# EAGLE library part ATSAMD21G* (library IC_Embedded)
32-bit ARM-Based Microcontrollers Datasheet <http://ww1.microchip.com/downloads/en/devicedoc/40001884a.pdf> Note:For this part User needs to add thermal via in thermal pad in QFN package while designing a board.
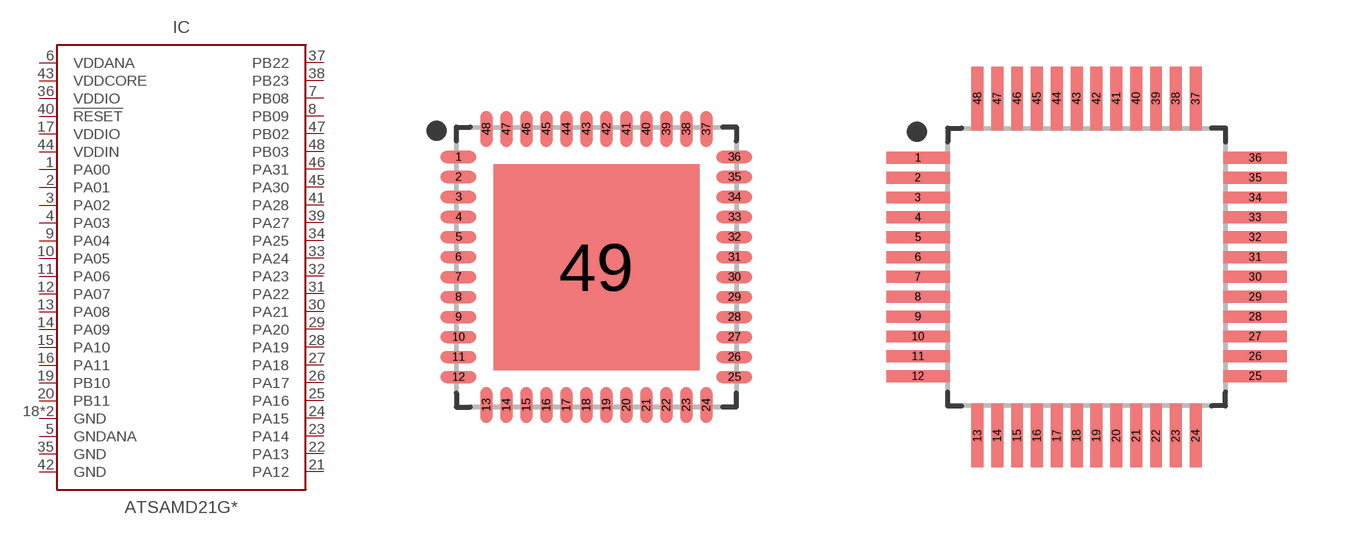
[diagram p5: symbol with the pads of QFN50P700X700X90-49T515; footprints QFN50P700X700X90-49T515, QFP50P900X900X120-48]

Designator prefix IC

## ATSAMD21G_QFN (CATEGORY: IC_Embedded; CORE: Cortex-M0+ CPU; DESCRIPTION: Low-power, high-performance Microchip's ARM® Cortex®-M0+ based flash microcontroller; MANUFACTURER: Microchip Technology; MPN: ATSAMD21G; OPERATING_TEMP: Variable; PACKAGE: QFN-48; PART_STATUS: Active; ROHS_COMPLIANT: COMPLIANT; SERIES: SAM D21G; SUB-CATEGORY: Microcontroller; TYPE: 32 bit Microcontroller; VALUE: ATSAMD21G)  [QFN50P700X700X90-49T515]
1  PA00  out
2  PA01  out
3  PA02
4  PA03
5  GNDANA  pwr
6  VDDANA  pwr
7  PB08
8  PB09
9  PA04
10  PA05
11  PA06
12  PA07
13  PA08
14  PA09
15  PA10
16  PA11
17  VDDIO  pwr
18  GND  pwr
19  PB10
20  PB11
21  PA12
22  PA13
23  PA14  out
24  PA15  out
25  PA16
26  PA17
27  PA18
28  PA19
29  PA20
30  PA21
31  PA22
32  PA23
33  PA24
34  PA25
35  GND  pwr
36  VDDIO  pwr
37  PB22
38  PB23
39  PA27
40  !RESET  in
41  PA28
42  GND  pwr
43  VDDCORE  pwr
44  VDDIN  pwr
45  PA30
46  PA31
47  PB02
48  PB03
49  GND  pwr

## ATSAMD21G_TQFP (CATEGORY: IC_Embedded; CORE: ARM Cortex M0+; DESCRIPTION: Low-power, high-performance Microchip's ARM® Cortex®-M0+ based flash microcontroller; MANUFACTURER: Microchip Technology; MPN: ATSAMD21G; OPERATING_TEMP: variable; PACKAGE: TQFP-48; PART_STATUS: Active; ROHS_COMPLIANT: COMPLIANT; SERIES: SAM D21G; SUB-CATEGORY: Microcontroller; TYPE: 32 bit Microcontroller; VALUE: ATSAMD21G)  [QFP50P900X900X120-48]
1  PA00  out
2  PA01  out
3  PA02
4  PA03
5  GNDANA  pwr
6  VDDANA  pwr
7  PB08
8  PB09
9  PA04
10  PA05
11  PA06
12  PA07
13  PA08
14  PA09
15  PA10
16  PA11
17  VDDIO  pwr
18  GND  pwr
19  PB10
20  PB11
21  PA12
22  PA13
23  PA14  out
24  PA15  out
25  PA16
26  PA17
27  PA18
28  PA19
29  PA20
30  PA21
31  PA22
32  PA23
33  PA24
34  PA25
35  GND  pwr
36  VDDIO  pwr
37  PB22
38  PB23
39  PA27
40  !RESET  in
41  PA28
42  GND  pwr
43  VDDCORE  pwr
44  VDDIN  pwr
45  PA30
46  PA31
47  PB02
48  PB03

## Footprint QFN50P700X700X90-49T515 (pad centres in mm)
48-QFN, 0.50 mm pitch, 7.00 X 7.00 X 0.90 mm body, 5.15 X 5.15 mm thermal pad 48-pin QFN package with 0.50 mm pitch with body size 7.00 X 7.00 X 0.90 mm and thermal pad size 5.15 X 5.15 mm
smd 0.9 x 0.3: 1 -3.45,2.75; 2 -3.45,2.25; 3 -3.45,1.75; 4 -3.45,1.25; 5 -3.45,0.75; 6 -3.45,0.25; 7 -3.45,-0.25; 8 -3.45,-0.75; 9 -3.45,-1.25; 10 -3.45,-1.75; 11 -3.45,-2.25; 12 -3.45,-2.75; 25 3.45,-2.75; 26 3.45,-2.25; 27 3.45,-1.75; 28 3.45,-1.25; 29 3.45,-0.75; 30 3.45,-0.25; 31 3.45,0.25; 32 3.45,0.75; 33 3.45,1.25; 34 3.45,1.75; 35 3.45,2.25; 36 3.45,2.75
smd 0.3 x 0.9: 13 -2.75,-3.45; 14 -2.25,-3.45; 15 -1.75,-3.45; 16 -1.25,-3.45; 17 -0.75,-3.45; 18 -0.25,-3.45; 19 0.25,-3.45; 20 0.75,-3.45; 21 1.25,-3.45; 22 1.75,-3.45; 23 2.25,-3.45; 24 2.75,-3.45; 37 2.75,3.45; 38 2.25,3.45; 39 1.75,3.45; 40 1.25,3.45; 41 0.75,3.45; 42 0.25,3.45; 43 -0.25,3.45; 44 -0.75,3.45; 45 -1.25,3.45; 46 -1.75,3.45; 47 -2.25,3.45; 48 -2.75,3.45
smd 5.15 x 5.15: 49 0,0

## Footprint QFP50P900X900X120-48 (pad centres in mm)
48-QFP, 0.50 mm pitch, 9.00 mm span, 7.00 X 7.00 X 1.20 mm body 48-pin QFP package with 0.50 mm pitch, 9.00 mm lead span1 X 9.00 mm lead span2 with body size 7.00 X 7.00 X 1.20 mm
smd 1.6 x 0.3: 1 -4.25,2.75; 2 -4.25,2.25; 3 -4.25,1.75; 4 -4.25,1.25; 5 -4.25,0.75; 6 -4.25,0.25; 7 -4.25,-0.25; 8 -4.25,-0.75; 9 -4.25,-1.25; 10 -4.25,-1.75; 11 -4.25,-2.25; 12 -4.25,-2.75; 25 4.25,-2.75; 26 4.25,-2.25; 27 4.25,-1.75; 28 4.25,-1.25; 29 4.25,-0.75; 30 4.25,-0.25; 31 4.25,0.25; 32 4.25,0.75; 33 4.25,1.25; 34 4.25,1.75; 35 4.25,2.25; 36 4.25,2.75
smd 0.3 x 1.6: 13 -2.75,-4.25; 14 -2.25,-4.25; 15 -1.75,-4.25; 16 -1.25,-4.25; 17 -0.75,-4.25; 18 -0.25,-4.25; 19 0.25,-4.25; 20 0.75,-4.25; 21 1.25,-4.25; 22 1.75,-4.25; 23 2.25,-4.25; 24 2.75,-4.25; 37 2.75,4.25; 38 2.25,4.25; 39 1.75,4.25; 40 1.25,4.25; 41 0.75,4.25; 42 0.25,4.25; 43 -0.25,4.25; 44 -0.75,4.25; 45 -1.25,4.25; 46 -1.75,4.25; 47 -2.25,4.25; 48 -2.75,4.25